# Altium integrated library Сapacitor SMD.IntLib: 2 symbols
Pins are listed as number, name and electrical type; pins without a type are passive.

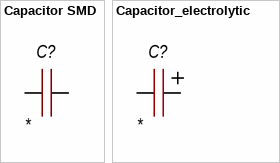
[diagram p0: symbols Сapacitor SMD to Сapacitor_electrolytic]

## Сapacitor SMD
designator C?
Case: *; HelpURL: *; Manufacature: *; Model: *; Value: *
footprint C0402
footprint C0603
footprint C0805
footprint C1206
pins: 1, 2

## Сapacitor_electrolytic
designator C?
Case: *; HelpURL: *; Manufacature: *; Model: *; Value: *
footprint SMD 4x5.4
footprint SMD 5x5.4
footprint SMD 6.3
footprint 13x20
pins: 1, 2